# Altium schematic symbol library PNP1.Schlib: 1 symbol
Pins are listed as number, name and electrical type; pins without a type are passive.

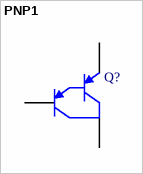
[diagram p0: symbol PNP1]

## PNP1
designator Q?
PNP Darlington Bipolar Transistor
pins: 1 E, 2 B, 3 C